# EAGLE library part 23FLZ-SM1 (library con-jst)
CONNECTOR
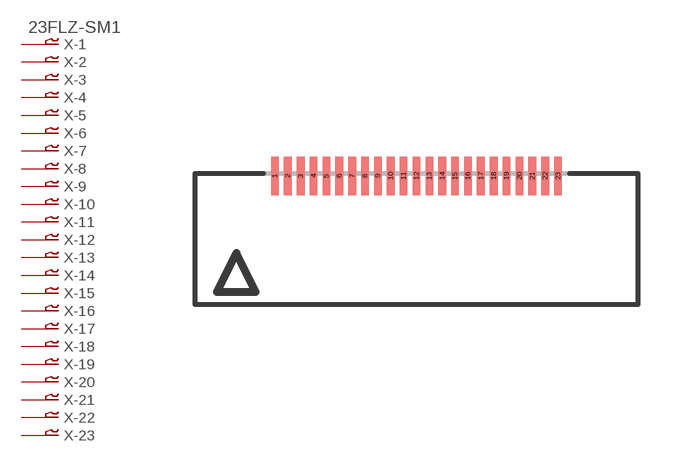
[diagram p4: symbol with the pads of 23FLZ-SM; footprint 23FLZ-SM]

Designator prefix X; gates -1=P-VN -2=P-N -3=P-N -4=P-N -5=P-N -6=P-N -7=P-N -8=P-N -9=P-N -10=P-N -11=P-N -12=P-N -13=P-N -14=P-N -15=P-N -16=P-N -17=P-N -18=P-N -19=P-N -20=P-N -21=P-N -22=P-N -23=P-N

## 23FLZ-SM1 (OC_FARNELL: unknown; OC_NEWARK: unknown)  [23FLZ-SM]
1  -1:1  pas
2  -2:1  pas
3  -3:1  pas
4  -4:1  pas
5  -5:1  pas
6  -6:1  pas
7  -7:1  pas
8  -8:1  pas
9  -9:1  pas
10  -10:1  pas
11  -11:1  pas
12  -12:1  pas
13  -13:1  pas
14  -14:1  pas
15  -15:1  pas
16  -16:1  pas
17  -17:1  pas
18  -18:1  pas
19  -19:1  pas
20  -20:1  pas
21  -21:1  pas
22  -22:1  pas
23  -23:1  pas

## Footprint 23FLZ-SM (pad centres in mm)
CONNECTOR
smd 0.3 x 1.5: 1 -5.5,2.5; 2 -5,2.5; 3 -4.5,2.5; 4 -4,2.5; 5 -3.5,2.5; 6 -3,2.5; 7 -2.5,2.5; 8 -2,2.5; 9 -1.5,2.5; 10 -1,2.5; 11 -0.5,2.5; 12 0,2.5; 13 0.5,2.5; 14 1,2.5; 15 1.5,2.5; 16 2,2.5; 17 2.5,2.5; 18 3,2.5; 19 3.5,2.5; 20 4,2.5; 21 4.5,2.5; 22 5,2.5; 23 5.5,2.5